# Altium footprint library HGH.PcbLib: 336 footprints (part 4 of 21)
Each footprint in its own frame and in the unit in brackets; x right, y up, seen from the top. Pads: shape width x height; smd on the part's side, far side on the other; paste and mask are expansions set on the pad; w line width, h text height; cw(c..) or ccw(c..) is an arc to the next point about the centre after c.
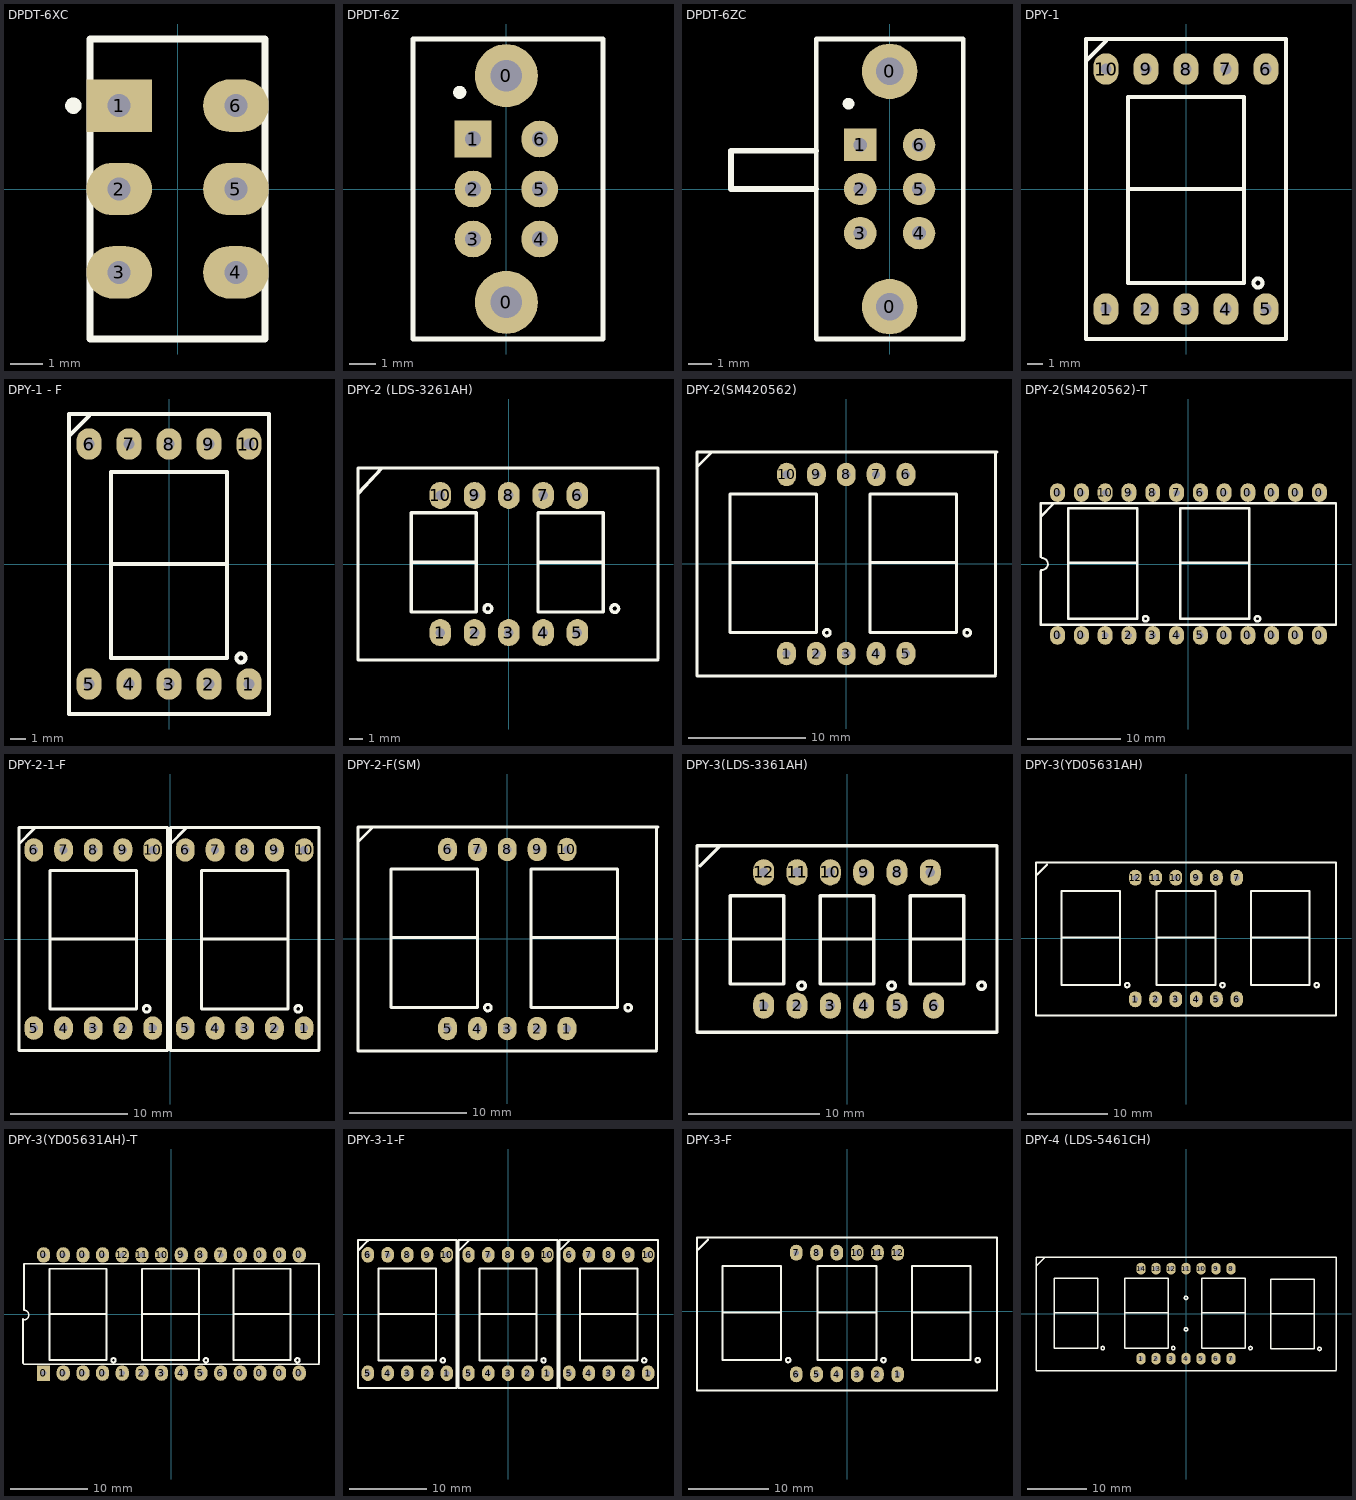
[diagram p3: the footprints below, top view; thin cyan lines are the x and y axes]

## DPDT-6XC [mm]
pads (6):
  rect 2x1.6 hole 0.7: 1(-1.778,2.54)
  oval 2x1.6 hole 0.7: 2(-1.778,0) 3(-1.778,-2.54) 4(1.778,-2.54) 5(1.778,0) 6(1.778,2.54)
Top Overlay:
  circle w0.25: c-3.173,2.54 r0.125
  lines w0.2: -2.667,-4.572 -2.667,4.572 2.667,4.572 2.667,-4.572 -2.667,-4.572

## DPDT-6Z [mm]
pads (8):
  round 2.4 hole 1.2: 0(0,-4.318) 0(0,4.318)
  rect 1.4x1.4 hole 0.6: 1(-1.27,1.905)
  round 1.4 hole 0.6: 2(-1.27,0) 3(-1.27,-1.905) 4(1.27,-1.905) 5(1.27,0) 6(1.27,1.905)
Top Overlay:
  circle w0.25: c-1.776,3.683 r0.125
  lines w0.2: -3.556,-5.715 3.683,-5.715 3.683,5.715 -3.556,5.715 -3.556,-5.715

## DPDT-6ZC [mm]
pads (8):
  round 2.4 hole 1.2: 0(0,-5.08) 0(0,5.08)
  rect 1.4x1.4 hole 0.6: 1(-1.27,1.905)
  round 1.4 hole 0.6: 2(-1.27,0) 3(-1.27,-1.905) 4(1.27,-1.905) 5(1.27,0) 6(1.27,1.905)
Top Overlay:
  circle w0.25: c-1.776,3.683 r0.125
  lines w0.2: -3.175,-6.477 3.175,-6.477 3.175,6.477 -3.175,6.477 -3.175,-6.477
  lines w0.254: -3.175,0 -6.858,0 -6.858,1.651 -3.175,1.651

## DPY-1 [mm]
pads (10):
  oval 1.6x2 hole 0.7: 1(-5.08,-7.62) 2(-2.54,-7.62) 3(0,-7.62) 4(2.54,-7.62) 5(5.08,-7.62) 6(5.08,7.62) 7(2.54,7.62) 8(0,7.62) 9(-2.54,7.62) 10(-5.08,7.62)
Top Overlay:
  circle w0.254: c4.572,-5.969 r0.284
  lines w0.254: -6.35,8.128 -5.08,9.398 ; -3.683,0 3.683,0 ; -6.35,-9.525 6.35,-9.525 6.35,9.525 -6.35,9.525 -6.35,-9.525 ; -3.683,-5.969 3.683,-5.969 3.683,5.842 -3.683,5.842 -3.683,-5.969

## DPY-1 - F [mm]
pads (10):
  oval 1.6x2 hole 0.7: 1(5.08,-7.62) 2(2.54,-7.62) 3(0,-7.62) 4(-2.54,-7.62) 5(-5.08,-7.62) 6(-5.08,7.62) 7(-2.54,7.62) 8(0,7.62) 9(2.54,7.62) 10(5.08,7.62)
Top Overlay:
  circle w0.254: c4.572,-5.969 r0.284
  lines w0.254: -6.35,8.128 -5.08,9.398 ; -3.683,0 3.683,0 ; -6.35,-9.525 6.35,-9.525 6.35,9.525 -6.35,9.525 -6.35,-9.525 ; -3.683,-5.969 3.683,-5.969 3.683,5.842 -3.683,5.842 -3.683,-5.969

## DPY-2 (LDS-3261AH) [mm]
pads (10):
  oval 1.6x2 hole 0.7: 1(-5.08,-5.08) 2(-2.54,-5.08) 3(0,-5.08) 4(2.54,-5.08) 5(5.08,-5.08) 6(5.08,5.08) 7(2.54,5.08) 8(0,5.08) 9(-2.54,5.08) 10(-5.08,5.08)
Top Overlay:
  circle w0.254: c-1.554,-3.302 r0.284
  circle w0.254: c7.844,-3.302 r0.284
  lines w0.254: -11.176,5.207 -9.398,7.112 ; -7.239,0.127 -2.54,0.127 ; 2.159,0.127 6.858,0.127 ; 11.049,-7.112 -11.176,-7.112 -11.176,7.112 11.049,7.112 11.049,-6.985 ; -7.239,-3.556 -5.08,-3.556 -2.413,-3.556 -2.413,0.254 -2.413,3.81 -7.239,3.81 -7.239,-3.556 ; 2.159,-3.556 4.318,-3.556 6.985,-3.556 6.985,0.254 6.985,3.81 2.159,3.81 2.159,-3.556

## DPY-2(SM420562) [mm]
pads (10):
  oval 1.6x2 hole 0.7: 1(-5.08,-7.62) 2(-2.54,-7.62) 3(0,-7.62) 4(2.54,-7.62) 5(5.08,-7.62) 6(5.08,7.62) 7(2.54,7.62) 8(0,7.62) 9(-2.54,7.62) 10(-5.08,7.62)
Top Overlay:
  circle w0.254: c10.287,-5.842 r0.284
  circle w0.254: c-1.651,-5.842 r0.284
  lines w0.254: -12.7,8.255 -11.43,9.525 -11.303,9.525 ; -9.906,0.127 -2.54,0.127 ; 2.032,0.127 9.398,0.127 ; 12.7,-9.525 -12.7,-9.525 -12.7,9.525 12.827,9.525 ; 12.7,-9.398 12.7,9.398 ; -9.906,-5.842 -2.54,-5.842 -2.54,5.969 -9.906,5.969 -9.906,-5.842 ; 2.032,-5.842 9.398,-5.842 9.398,5.969 2.032,5.969 2.032,-5.842

## DPY-2(SM420562)-T [mm]
pads (24):
  oval 1.6x2 hole 0.7: 0(-13.97,-7.62) 0(-13.97,7.62) 0(-11.43,-7.62) 0(-11.43,7.62) 0(3.81,-7.62) 0(3.81,7.62) 0(6.35,-7.62) 0(6.35,7.62) 0(8.89,-7.62) 0(8.89,7.62) 0(11.43,-7.62) 0(11.43,7.62) 0(13.97,-7.62) 0(13.97,7.62) 1(-8.89,-7.62) 2(-6.35,-7.62) 3(-3.81,-7.62) 4(-1.27,-7.62) 5(1.27,-7.62) 6(1.27,7.62) 7(-1.27,7.62) 8(-3.81,7.62) 9(-6.35,7.62) 10(-8.89,7.62)
Top Overlay:
  circle w0.254: c-4.572,-5.842 r0.284
  circle w0.254: c7.366,-5.842 r0.284
  lines w0.2: -15.74,-0.626 ccw(c-15.636,0) -15.636,0.635
  lines w0.254: -15.763,-6.492 -15.763,-0.762 ; -15.748,-6.477 15.748,-6.477 15.748,6.477 -15.748,6.477 -15.748,0.747 ; -15.748,5.08 -14.478,6.35 ; -12.827,0.127 -5.461,0.127 ; -0.889,0.127 6.477,0.127 ; -12.827,-5.842 -12.827,5.969 -5.461,5.969 -5.461,-5.842 -12.827,-5.842 ; -0.889,-5.842 -0.889,5.969 6.477,5.969 6.477,-5.842 -0.889,-5.842

## DPY-2-1-F [mm]
pads (20):
  oval 1.6x2 hole 0.7: 1(-1.524,-7.62) 1(11.43,-7.62) 2(-4.064,-7.62) 2(8.89,-7.62) 3(-6.604,-7.62) 3(6.35,-7.62) 4(-9.144,-7.62) 4(3.81,-7.62) 5(-11.684,-7.62) 5(1.27,-7.62) 6(-11.684,7.62) 6(1.27,7.62) 7(-9.144,7.62) 7(3.81,7.62) 8(-6.604,7.62) 8(6.35,7.62) 9(-4.064,7.62) 9(8.89,7.62) 10(-1.524,7.62) 10(11.43,7.62)
Top Overlay:
  circle w0.254: c10.922,-5.969 r0.284
  circle w0.254: c-2.032,-5.969 r0.284
  lines w0.254: -12.954,8.128 -11.684,9.398 ; -10.287,0 -2.921,0 ; 0,8.128 1.27,9.398 ; 2.667,0 10.033,0 ; -12.954,-9.525 -0.254,-9.525 -0.254,9.525 -12.954,9.525 -12.954,-9.525 ; -10.287,-5.969 -2.921,-5.969 -2.921,5.842 -10.287,5.842 -10.287,-5.969 ; 0,-9.525 12.7,-9.525 12.7,9.525 0,9.525 0,-9.525 ; 2.667,-5.969 10.033,-5.969 10.033,5.842 2.667,5.842 2.667,-5.969

## DPY-2-F(SM) [mm]
pads (10):
  oval 1.6x2 hole 0.7: 1(5.08,-7.62) 2(2.54,-7.62) 3(0,-7.62) 4(-2.54,-7.62) 5(-5.08,-7.62) 6(-5.08,7.62) 7(-2.54,7.62) 8(0,7.62) 9(2.54,7.62) 10(5.08,7.62)
Top Overlay:
  circle w0.254: c-1.651,-5.842 r0.284
  circle w0.254: c10.287,-5.842 r0.284
  lines w0.254: -12.7,8.255 -11.43,9.525 -11.303,9.525 ; -9.906,0.127 -2.54,0.127 ; 2.032,0.127 9.398,0.127 ; 12.7,-9.525 -12.7,-9.525 -12.7,9.525 12.827,9.525 ; 12.7,-9.398 12.7,9.398 ; -9.906,-5.842 -9.906,5.969 -2.54,5.969 -2.54,-5.842 -9.906,-5.842 ; 2.032,-5.842 2.032,5.969 9.398,5.969 9.398,-5.842 2.032,-5.842

## DPY-3(LDS-3361AH) [mm]
pads (12):
  oval 1.6x2 hole 0.7: 1(-6.35,-5.08) 2(-3.81,-5.08) 3(-1.27,-5.08) 4(1.27,-5.08) 5(3.81,-5.08) 6(6.604,-5.08) 7(6.35,5.08) 8(3.81,5.08) 9(1.27,5.08) 10(-1.27,5.08) 11(-3.81,5.08) 12(-6.35,5.08)
Top Overlay:
  circle w0.254: c-3.459,-3.556 r0.284
  circle w0.254: c10.257,-3.556 r0.284
  circle w0.254: c3.399,-3.556 r0.284
  lines w0.254: -11.176,5.588 -9.779,6.985 ; -8.89,0 -4.826,0 ; -2.032,0 2.032,0 ; 4.826,0 8.89,0 ; -11.43,-7.112 -11.43,7.112 11.43,7.112 11.43,-7.112 -11.43,-7.112 ; -8.89,-3.429 -4.826,-3.429 -4.826,3.302 -8.89,3.302 -8.89,-3.429 ; -2.032,-3.429 2.032,-3.429 2.032,3.302 -2.032,3.302 -2.032,-3.429 ; 4.826,-3.429 8.89,-3.429 8.89,3.302 4.826,3.302 4.826,-3.429

## DPY-3(YD05631AH) [mm]
pads (12):
  oval 1.6x2 hole 0.7: 1(-6.35,-7.62) 2(-3.81,-7.62) 3(-1.27,-7.62) 4(1.27,-7.62) 5(3.81,-7.62) 6(6.35,-7.62) 7(6.35,7.62) 8(3.81,7.62) 9(1.27,7.62) 10(-1.27,7.62) 11(-3.81,7.62) 12(-6.35,7.62)
Top Overlay:
  circle w0.254: c16.383,-5.842 r0.284
  circle w0.254: c-7.366,-5.842 r0.284
  circle w0.254: c4.572,-5.842 r0.284
  lines w0.254: -18.669,8.001 -17.399,9.271 ; -15.621,0.127 -8.255,0.127 ; -3.683,0.127 3.683,0.127 ; 8.128,0.127 15.494,0.127 ; 18.669,9.525 -18.796,9.525 -18.796,-9.652 18.796,-9.652 ; 18.796,-9.525 18.796,9.525 ; -15.621,-5.842 -15.621,5.969 -8.255,5.969 -8.255,-5.842 -15.621,-5.842 ; -3.683,-5.842 -3.683,5.969 3.683,5.969 3.683,-5.842 -3.683,-5.842 ; 8.128,-5.842 8.128,5.969 15.494,5.969 15.494,-5.842 8.128,-5.842

## DPY-3(YD05631AH)-T [mm]
pads (28):
  rect 1.7x2 hole 0.7: 0(-16.51,-7.62)
  oval 1.7x2 hole 0.7: 0(-16.51,7.62) 0(-13.97,-7.62) 0(-13.97,7.62) 0(-11.43,-7.62) 0(-11.43,7.62) 0(-8.89,-7.62) 0(-8.89,7.62) 0(8.89,-7.62) 0(8.89,7.62) 0(11.43,-7.62) 0(11.43,7.62) 0(13.97,-7.62) 0(13.97,7.62) 0(16.51,-7.62) 0(16.51,7.62) 1(-6.35,-7.62) 2(-3.81,-7.62) 3(-1.27,-7.62) 4(1.27,-7.62) 5(3.81,-7.62) 6(6.35,-7.62) 7(6.35,7.62) 8(3.81,7.62) 9(1.27,7.62) 10(-1.27,7.62) 11(-3.81,7.62) 12(-6.35,7.62)
Top Overlay:
  circle w0.254: c16.256,-5.969 r0.284
  circle w0.254: c-7.493,-5.969 r0.284
  circle w0.254: c4.445,-5.969 r0.284
  lines w0.2: -19.05,-6.46 19.05,-6.46 ; -19.05,-0.762 ccw(c-19.05,-0.127) -19.05,0.508 ; -19.05,6.477 19.05,6.46 ; 19.05,-6.35 19.05,6.35
  lines w0.254: -19.177,-6.35 -19.177,-0.652 ; -19.05,0.508 -19.05,6.477 ; -15.748,0 -8.382,0 ; -3.81,0 3.556,0 ; 8.001,0 15.367,0 ; -15.748,-5.969 -15.748,5.842 -8.382,5.842 -8.382,-5.969 -15.748,-5.969 ; -3.81,-5.969 -3.81,5.842 3.556,5.842 3.556,-5.969 -3.81,-5.969 ; 8.001,-5.969 8.001,5.842 15.367,5.842 15.367,-5.969 8.001,-5.969

## DPY-3-1-F [mm]
pads (30):
  oval 1.6x2 hole 0.7: 1(-7.874,-7.62) 1(5.08,-7.62) 1(18.034,-7.62) 2(-10.414,-7.62) 2(2.54,-7.62) 2(15.494,-7.62) 3(-12.954,-7.62) 3(0,-7.62) 3(12.954,-7.62) 4(-15.494,-7.62) 4(-2.54,-7.62) 4(10.414,-7.62) 5(-18.034,-7.62) 5(-5.08,-7.62) 5(7.874,-7.62) 6(-18.034,7.62) 6(-5.08,7.62) 6(7.874,7.62) 7(-15.494,7.62) 7(-2.54,7.62) 7(10.414,7.62) 8(-12.954,7.62) 8(0,7.62) 8(12.954,7.62) 9(-10.414,7.62) 9(2.54,7.62) 9(15.494,7.62) 10(-7.874,7.62) 10(5.08,7.62) 10(18.034,7.62)
Top Overlay:
  circle w0.254: c17.526,-5.969 r0.284
  circle w0.254: c-8.382,-5.969 r0.284
  circle w0.254: c4.572,-5.969 r0.284
  lines w0.254: -19.304,8.128 -18.034,9.398 ; -16.637,0 -9.271,0 ; -6.35,8.128 -5.08,9.398 ; -3.683,0 3.683,0 ; 6.604,8.128 7.874,9.398 ; 9.271,0 16.637,0 ; -19.304,-9.525 -6.604,-9.525 -6.604,9.525 -19.304,9.525 -19.304,-9.525 ; -16.637,-5.969 -9.271,-5.969 -9.271,5.842 -16.637,5.842 -16.637,-5.969 ; -6.35,-9.525 6.35,-9.525 6.35,9.525 -6.35,9.525 -6.35,-9.525 ; -3.683,-5.969 3.683,-5.969 3.683,5.842 -3.683,5.842 -3.683,-5.969 ; 6.604,-9.525 19.304,-9.525 19.304,9.525 6.604,9.525 6.604,-9.525 ; 9.271,-5.969 16.637,-5.969 16.637,5.842 9.271,5.842 9.271,-5.969

## DPY-3-F [mm]
pads (12):
  oval 1.6x2 hole 0.7: 1(6.35,-7.874) 2(3.81,-7.874) 3(1.27,-7.874) 4(-1.27,-7.874) 5(-3.81,-7.874) 6(-6.35,-7.874) 7(-6.35,7.366) 8(-3.81,7.366) 9(-1.27,7.366) 10(1.27,7.366) 11(3.81,7.366) 12(6.35,7.366)
Top Overlay:
  circle w0.254: c16.383,-6.096 r0.284
  circle w0.254: c-7.366,-6.096 r0.284
  circle w0.254: c4.572,-6.096 r0.284
  lines w0.254: -18.669,7.747 -17.399,9.017 ; -15.621,-0.127 -8.255,-0.127 ; -3.683,-0.127 3.683,-0.127 ; 8.128,-0.127 15.494,-0.127 ; 18.669,9.271 -18.796,9.271 -18.796,-9.906 18.796,-9.906 ; 18.796,-9.779 18.796,9.271 ; -15.621,-6.096 -15.621,5.715 -8.255,5.715 -8.255,-6.096 -15.621,-6.096 ; -3.683,-6.096 -3.683,5.715 3.683,5.715 3.683,-6.096 -3.683,-6.096 ; 8.128,-6.096 8.128,5.715 15.494,5.715 15.494,-6.096 8.128,-6.096

## DPY-4 (LDS-5461CH) [mm]
pads (14):
  oval 1.6x2 hole 0.7: 1(-7.62,-7.62) 2(-5.08,-7.62) 3(-2.54,-7.62) 4(0,-7.62) 5(2.54,-7.62) 6(5.08,-7.62) 7(7.62,-7.62) 8(7.62,7.62) 9(5.08,7.62) 10(2.54,7.62) 11(0,7.62) 12(-2.54,7.62) 13(-5.08,7.62) 14(-7.62,7.62)
Top Overlay:
  circle w0.254: c0,-2.667 r0.284
  circle w0.254: c0,2.667 r0.284
  circle w0.254: c-14.097,-5.842 r0.284
  circle w0.254: c-2.159,-5.842 r0.284
  circle w0.254: c10.922,-5.842 r0.284
  circle w0.254: c22.606,-5.969 r0.284
  lines w0.254: -25.273,8.128 -24.003,9.398 ; -22.352,0.127 -14.986,0.127 ; -10.414,0.127 -3.048,0.127 ; 2.667,0.127 10.033,0.127 ; 14.351,0 21.717,0 ; 25.4,-9.652 -25.4,-9.652 -25.4,9.525 25.4,9.525 25.4,-9.525 ; -22.352,-5.842 -22.352,5.969 -14.986,5.969 -14.986,-5.842 -22.352,-5.842 ; -10.414,-5.842 -10.414,5.969 -3.048,5.969 -3.048,-5.842 -10.414,-5.842 ; 2.667,-5.842 2.667,5.969 10.033,5.969 10.033,-5.842 2.667,-5.842 ; 14.351,-5.969 14.351,5.842 21.717,5.842 21.717,-5.969 14.351,-5.969